# Altium schematic symbol library MC.SchLib: 21 symbols
Pins are listed as number, name and electrical type; pins without a type are passive.

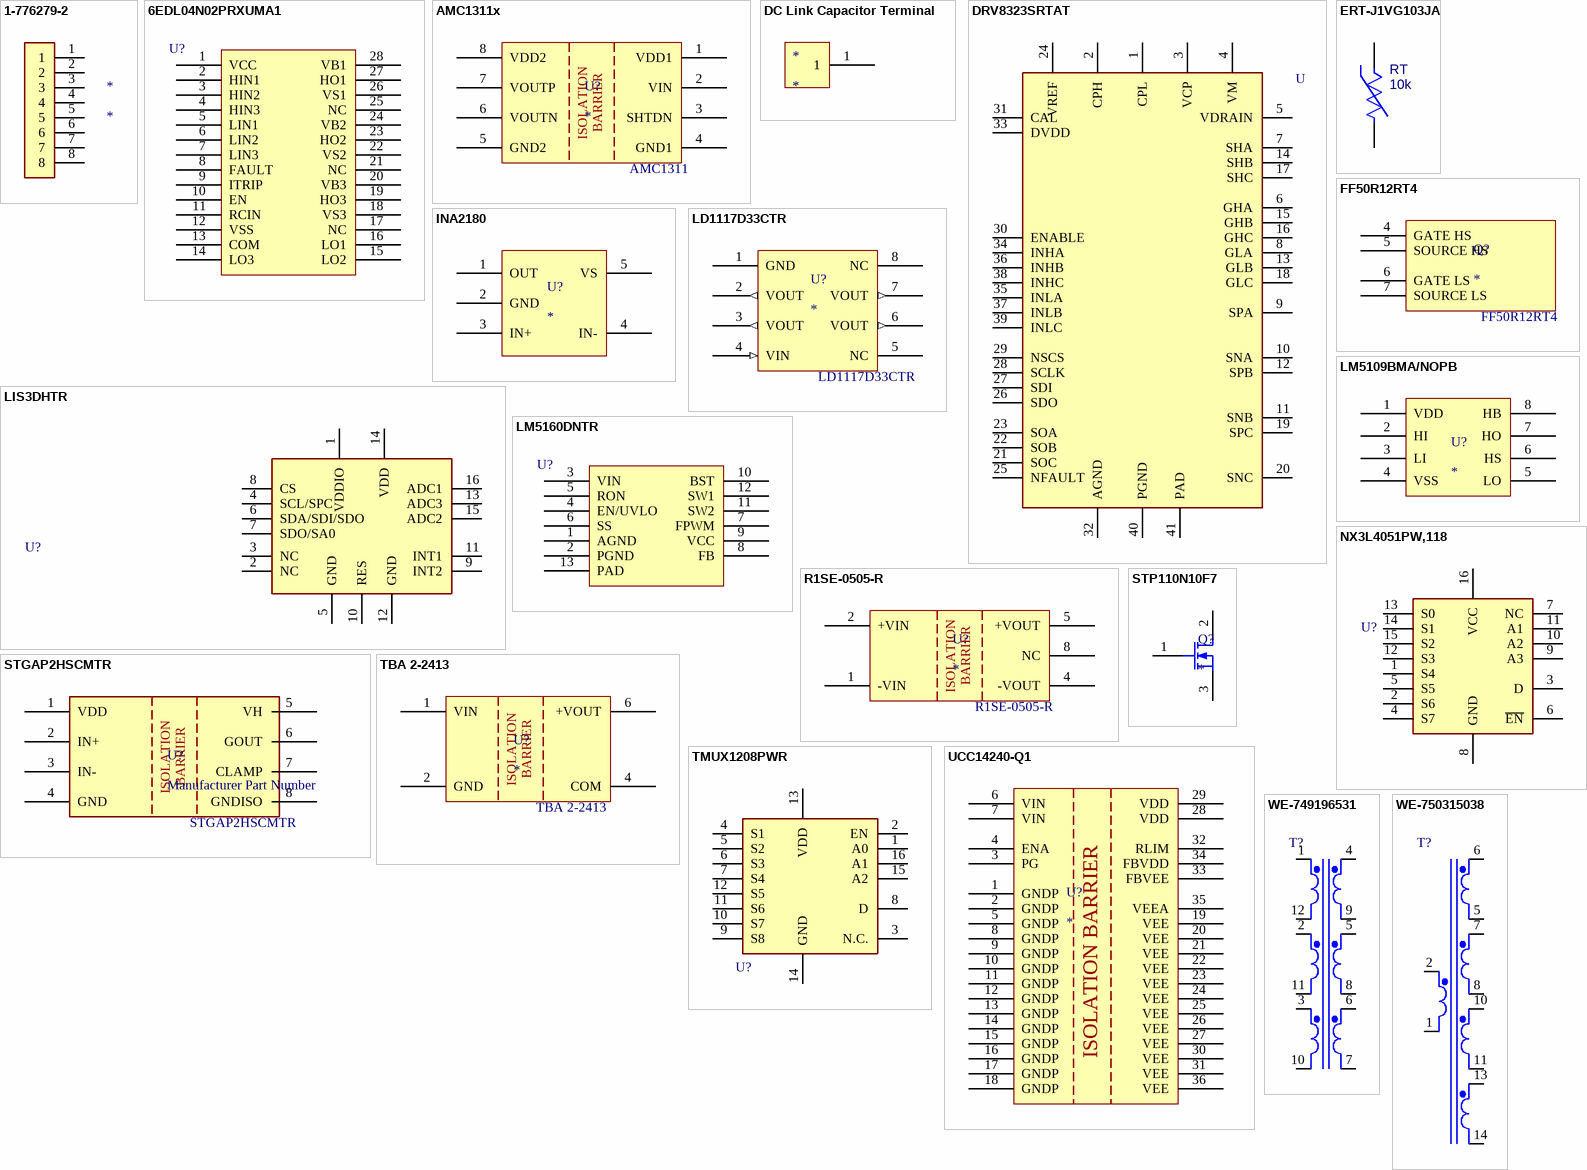
[diagram p0: symbols 1-776279-2 to WE-750315038]

## 1-776279-2
designator *
footprint TE_1-776279-2
pins: 1, 2, 3, 4, 5, 6, 7, 8

## 6EDL04N02PRXUMA1
designator U?
200V Three Phase Gate Driver; Manufacturer: Infineon; Manufacturer Part Number: 6EDL04N02PRXUMA1; Datasheet: https://www.infineon.com/dgdl/6ED2-DB-Rev2_3.pdf?folderId=db3a30431a5c32f2011a77fa27a86cb5&fileId=db3a304336797ff901367c18c18445af; Supplier Part Number: 6EDL04N02PRXUMA1CT-ND; Supplier: Digikey
footprint TSOP65P640X120-28N (TSOP, 28-Leads, Body 9.70x4.40mm, Pitch 0.65mm, IPC Medium Density)
pins: 1 VCC (power), 2 HIN1, 3 HIN2, 4 HIN3, 5 LIN1, 6 LIN2, 7 LIN3, 8 FAULT, 9 ITRIP, 10 EN, 11 RCIN, 12 VSS, 13 COM (power), 14 LO3, 15 LO2, 16 LO1, 17 NC, 18 VS3, 19 HO3, 20 VB3, 21 NC, 22 VS2, 23 HO2, 24 VB2, 25 NC, 26 VS1, 27 HO1, 28 VB1

## AMC1311x
designator U?
Isolated Amplifier 2V Input; Manufacturer: Texas Instruments; Manufacturer Part Number: AMC1311x; Supplier: DigiKey; Supplier Part Number: *; ComponentLink1Description: Datasheet; ComponentLink1URL: https://www.ti.com/lit/ds/symlink/amc1311.pdf
footprint AMC1311x (Isolated Amplifier 2V Input)
pins: 1 VDD1, 2 VIN, 3 SHTDN, 4 GND1, 5 GND2, 6 VOUTN, 7 VOUTP, 8 VDD2
text: BARRIER; ISOLATION; AMC1311

## DC Link Capacitor Terminal
designator *
M8 Nut Screwed onto Capacitor Terminal
footprint DC Link Capacitor Terminal
pins: 1

## DRV8323SRTAT
designator U  (value not drawn)
Multiphase Motor Driver Power MOSFET SPI; Manufacturer: Texas Instruments; Manufacturer Part Number: DRV8323SRTAT; Supplier: Digikey; Supplier Part Number: 296-47095-1-ND; ComponentLink1Description: Datasheet; ComponentLink1URL: https://www.ti.com/lit/ds/symlink/drv8323.pdf?HQS=dis-dk-null-digikeymode-dsf-pf-null-wwe&ts=1623708117864
footprint QFN50P600X600X80-41N415X415
pins: 1 CPL (power), 2 CPH (power), 3 VCP (power), 4 VM (power), 5 VDRAIN, 6 GHA, 7 SHA, 8 GLA, 9 SPA, 10 SNA, 11 SNB, 12 SPB, 13 GLB, 14 SHB, 15 GHB, 16 GHC, 17 SHC, 18 GLC, 19 SPC, 20 SNC, 21 SOC, 22 SOB, 23 SOA, 24 VREF (power), 25 NFAULT, 26 SDO, 27 SDI, 28 SCLK, 29 NSCS, 30 ENABLE, 31 CAL, 32 AGND (power), 33 DVDD (power), 34 INHA, 35 INLA, 36 INHB, 37 INLB, 38 INHC, 39 INLC, 40 PGND (power), 41 PAD (power)

## ERT-J1VG103JA
designator RT, comment 10k
NTC Thermistor for Temperature Sensor, SMD 0603, 10kΩ; Resistance Tolerance: 1%; Current Rating: 140uA; Power Rating: 100mW; Resistance: 10kR; Case/Package: 0402; Packaging: Tape and Reel; Radiation Hardening: No; Min Operating Temperature: -40°C; Lead Free: Lead Free; Mount: Surface Mount; RoHS Compliant: Yes; Number of Pins: 2; Package Quantity: 10000; Case Code (Metric): 1005; Max Operating Temperature: 125°C; Max Power Dissipation: 100mW; Series: NCP; Height: 0.5mm; Depth: 0.5mm; Termination: SMD/SMT; Case Code (Imperial): 0603; Tolerance: 1%; Length: 1mm; Parameter 1: *
footprint ERT-J1VG103JA
pins: 1, 2

## FF50R12RT4
designator Q?
IGBT-Module Gate Driver Header
footprint FF50R12RT4 (Emitter Controlled 4 Diode)
pins: 4 GATE HS, 5 SOURCE HS, 6 GATE LS, 7 SOURCE LS

## INA2180
designator U?
footprint INA2180 (Current Sense Amplifier)
pins: 1 OUT, 2 GND, 3 IN+, 4 IN-, 5 VS

## LD1117D33CTR
designator U?
Linear Voltage Regulator IC Positive Fixed 1 Output 800mA 8-SOIC; Parameter 1: *; Parameter 2: *
footprint LD1117D33CTR (Linear Voltage Regulator IC Positive Fixed 1 Output 800mA 8-SOIC)
pins: 1 GND, 2 VOUT (out), 3 VOUT (out), 4 VIN (in), 5 NC, 6 VOUT (out), 7 VOUT (out), 8 NC

## LIS3DHTR
designator U?  (value not drawn)
Accelerometer; Manufacturer: STMicroelectronics; Manufacturer Part Number: LIS3DHTR; ComponentLink1Description: Datasheet; ComponentLink1URL: http://www.st.com/content/ccc/resource/technical/document/datasheet/3c/ae/50/85/d6/b1/46/fe/CD00274221.pdf/files/CD00274221.pdf/jcr:content/translations/en.CD00274221.pdf; Supplier: Digikey; Supplier Part Number: 497-10613-1-ND
footprint LIS3DHTR
pins: 1 VDDIO (power), 2 NC, 3 NC, 4 SCL/SPC, 5 GND (power), 6 SDA/SDI/SDO, 7 SDO/SA0, 8 CS (power), 9 INT2 (power), 10 RES, 11 INT1 (power), 12 GND (power), 13 ADC3, 14 VDD (power), 15 ADC2, 16 ADC1

## LM5109BMA/NOPB
designator U?
Half Bridge Gate Driver
footprint LM5109BMA/NOPB (Half Bridge Gate Driver 1-A Peak)
pins: 1 VDD, 2 HI, 3 LI, 4 VSS, 5 LO, 6 HS, 7 HO, 8 HB

## LM5160DNTR
designator U?
IC REG BUCK FLYBCK ADJ 12WSON; Manufacturer: Texas Instruments; Manufacturer Part Number: LM5160DNTR; Datasheet: https://www.ti.com/lit/ds/symlink/lm5160.pdf?HQS=TI-null-null-digikeymode-df-pf-null-wwe&ts=1605241040592; Supplier Part Number: 296-46122-1-ND; Supplier: Digikey
footprint LM5160DNTR (SON, 12-Leads, Body 4.00x4.00mm, Pitch 0.50mm, Thermal Pad 3.00x2.49mm, IPC Medium Density)
pins: 1 AGND, 2 PGND, 3 VIN (power), 4 EN/UVLO, 5 RON, 6 SS, 7 FPWM, 8 FB, 9 VCC, 10 BST, 11 SW2, 12 SW1, 13 PAD

## NX3L4051PW,118
designator U?  (value not drawn)
8:1 MUX; Manufacturer Part Number: NX3L4051PW,118; Manufacturer: NXP; Supplier Part Number: 568-12393-1-ND; Supplier: Digikey; ComponentLink1Description: Datsheet; ComponentLink1URL: https://www.nxp.com/docs/en/data-sheet/NX3L4051.pdf
footprint SOP65P640X120-16N
pins: 1 S4, 2 S6, 3 D, 4 S7, 5 S5, 6 ~{EN}, 7 NC, 8 GND, 9 A3, 10 A2, 11 A1, 12 S3, 13 S0, 14 S1, 15 S2, 16 VCC

## R1SE-0505-R
designator U?
DC DC CONVERTER 5V 1W; Manufacturer: Recom Power; Manufacturer Part Number: R1SE-0505-R; Supplier: DigiKey; Supplier Part Number: 945-1659-1-ND; ComponentLink1Description: Datasheet; ComponentLink1URL: https://recom-power.com/pdf/Econoline/R1SE.pdf
footprint R1SE-0505-R (DC DC CONVERTER 5V 1W)
pins: 1 -VIN, 2 +VIN, 4 -VOUT, 5 +VOUT, 8 NC
text: BARRIER; ISOLATION

## STGAP2HSCMTR
designator U?, comment Manufacturer Part Number
Isolated Gate Driver 4A Sink/Source; Manufacturer: ST; Manufacturer Part Number: STGAP2HSCMTR; Supplier: Digikey; Supplier Part Number: 497-STGAP2HSCMCT-ND
footprint STGAP2HSCMTR (Galvanically Isolated 4A Single Gate Driver)
pins: 1 VDD, 2 IN+, 3 IN-, 4 GND, 5 VH, 6 GOUT, 7 CLAMP, 8 GNDISO
text: BARRIER; ISOLATION

## STP110N10F7
designator Q?
footprint STP110N10F7D (90 deg mosfet)
footprint STP110N10F7 (N Channel MOSFET)
pins: 1 G, 2 D, 3 S

## TBA 2-2413
designator U?
DC DC CONVERTER 15V 2W
footprint TBA 2-2413 (Footprint not found)
pins: 1 VIN, 2 GND, 4 COM, 6 +VOUT
text: BARRIER; ISOLATION

## TMUX1208PWR
designator U?  (value not drawn)
8:1 MUX; Manufacturer_Name: Texas Instruments; Manufacturer_Part_Number: TMUX1208PWR; Height: 1.2mm; Mouser Part Number: 595-TMUX1208PWR; Mouser Price/Stock: https://www.mouser.co.uk/ProductDetail/Texas-Instruments/TMUX1208PWR/?qs=lc2O%252BfHJPVbYdIGs2%2FdugA%3D%3D; ComponentLink1Description: Datasheet; ComponentLink1URL: http://www.ti.com/lit/gpn/tmux1208
footprint SOP65P640X120-16N
pins: 1 A0, 2 EN, 3 N.C., 4 S1, 5 S2, 6 S3, 7 S4, 8 D, 9 S8, 10 S7, 11 S6, 12 S5, 13 VDD, 14 GND, 15 A2, 16 A1

## UCC14240-Q1
designator U?
Isolated DC/DC Converter with Integrated Transformer; Manufacturer: Texas Instruments; MPN: UCC14240-Q1; ComponentLink1Description: Datasheet; ComponentLink1URL: https://www.ti.com/lit/ds/symlink/ucc14240-q1.pdf?ts=1634091484132&ref_url=https%253A%252F%252Fwww.ti.com%252Fproduct%252FUCC14240-Q1; Digikey Part Number: *; Mouser Part Number: *
footprint SOP65P1020X355-36N (SOP, 36-Leads, Body 12.83x7.50mm, Pitch 0.65mm, IPC Medium Density)
pins: 1 GNDP, 2 GNDP, 3 PG, 4 ENA, 5 GNDP, 6 VIN, 7 VIN, 8 GNDP, 9 GNDP, 10 GNDP, 11 GNDP, 12 GNDP, 13 GNDP, 14 GNDP, 15 GNDP, 16 GNDP, 17 GNDP, 18 GNDP, 19 VEE, 20 VEE, 21 VEE, 22 VEE, 23 VEE, 24 VEE, 25 VEE, 26 VEE, 27 VEE, 28 VDD, 29 VDD, 30 VEE, 31 VEE, 32 RLIM, 33 FBVEE, 34 FBVDD, 35 VEEA, 36 VEE
text: ISOLATION BARRIER

## WE-749196531
designator T?
TRANSFORMER 9.7UH 1.7A SMD 500VDC; Manufacturer: Würth Elektronik; Manufacturer Part Number: 749196531; Datasheet: https://www.we-online.de/katalog/datasheet/749196531.pdf; Supplier Part Number: 732-2456-1-ND; Supplier: Digikey
footprint WE-749196531
pins: 1 Pri+, 2 Pri+, 3 Pri+, 4 Sec+, 5 Sec+, 6 Sec+, 7 Sec-, 8 Sec-, 9 Sec-, 10 Pri-, 11 Pri-, 12 Pri-

## WE-750315038
designator T?
TRANSFORMER 36.5uH 300mA THT 26VDC; Manufacturer: Würth Elektronik; Manufacturer Part Number: 750315038; Datasheet: https://www.we-online.com/catalog/datasheet/750315038.pdf; Supplier Part Number: 1297-1155-ND; Supplier: Digikey
footprint WE-750315038
pins: 1 Pri-, 2 Pri+, 5 Sec-, 6 Sec+, 7 Sec+, 8 Sec-, 10 Sec+, 11 Sec-, 13 Sec+, 14 Sec-